# Altium footprint library RF_Connector.PcbLib: 5 footprints
Each footprint in its own frame and in the unit in brackets; x right, y up, seen from the top. Pads: shape width x height; smd on the part's side, far side on the other; paste and mask are expansions set on the pad; w line width, h text height; cw(c..) or ccw(c..) is an arc to the next point about the centre after c.
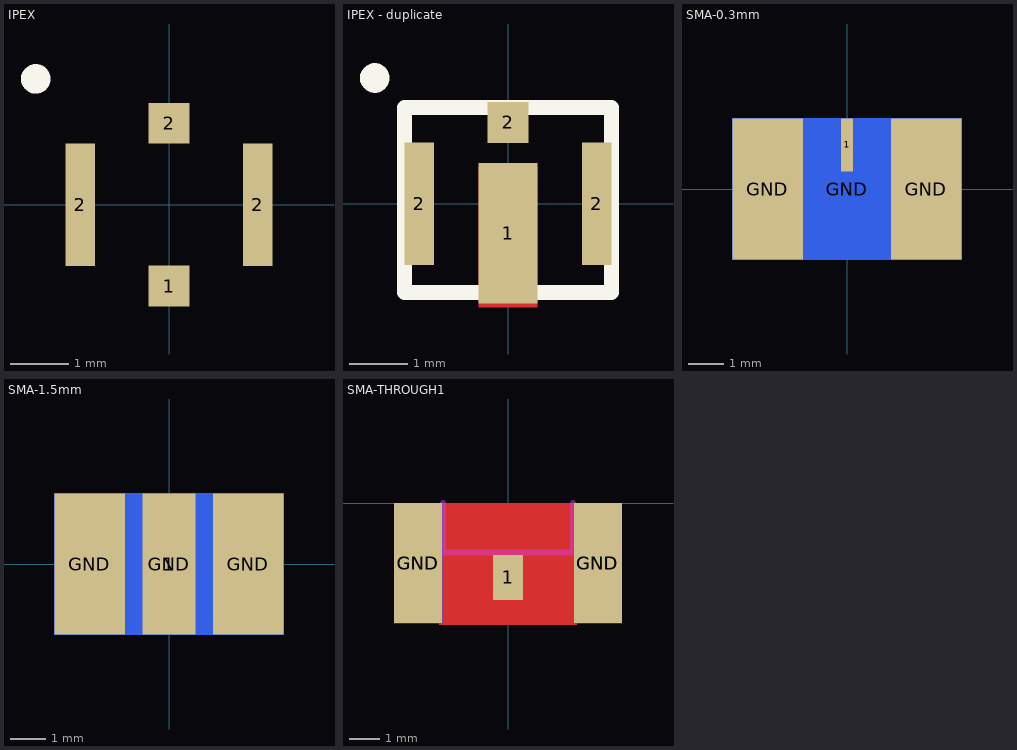
[diagram p0: the footprints below, top view; thin cyan lines are the x and y axes]

## IPEX [mm]
pads (4):
  rect 0.7x0.7 smd: 1(0,-1.397) 2(0,1.397)
  rect 0.5x2.1 smd: 2(-1.524,0) 2(1.524,0)
Top Overlay:
  circle w0.254: c-2.286,2.159 r0.127
Internal Plane 1:
  rectangle: -1.27,-1.651 1.27,1.143

## IPEX - duplicate [mm]
pads (4):
  rect 1.016x2.413 smd: 1(0,-0.508)
  rect 0.5x2.1 smd: 2(-1.524,0) 2(1.524,0)
  rect 0.7x0.7 smd: 2(0,1.397)
Top Layer:
  rectangle: -0.508,-1.778 0.508,0.635
Top Overlay:
  circle w0.254: c-2.286,2.159 r0.127
  lines w0.254: -1.778,-1.524 -1.778,1.651 1.778,1.651 1.778,-1.524 0.635,-1.524 -0.635,-1.524 -1.778,-1.524

## SMA-0.3mm [mm]
pads (4):
  rect 0.33x1.5 smd: 1(0,1.25)
  rect 2x4 smd: GND(-2.25,0) GND(2.25,0)
  rect 6.5x4 smd far side: GND(0,0)
Top Layer:
  pour cut-out: -1.25,2 1.25,2 1.25,-1.975 -1.25,-1.975

## SMA-1.5mm [mm]
pads (4):
  rect 1.5x4 smd: 1(0,0)
  rect 2x4 smd: GND(-2.25,0) GND(2.25,0)
  rect 6.5x4 smd far side: GND(0,0)
Top Layer:
  pour cut-out: -1.25,2 1.25,2 1.25,-1.975 -1.25,-1.975
Internal Plane 1:
  region: 1.42,-1.962 1.42,2 -1.425,2 -1.425,-1.962

## SMA-THROUGH1 [mm]
pads (5):
  rect 1x1.5 smd: 1(0,-2.475)
  rect 1.6x4 smd: GND(-3,-2) GND(3,-2)
  rect 1.6x4 smd far side: GND(-3,-2) GND(3,-2)
Top Layer:
  pour cut-out: 2.286,-4.064 -2.286,-4.064 -2.286,0 2.286,0
Internal Plane 1:
  region: 1.45,-3.225 1.45,-1.725 -1.395,-1.725 -1.395,-3.225
Keep-Out Layer:
  lines w0.2: -2.159,0 -2.159,-1.651 2.159,-1.651 2.159,0
3D body: height 0.8, standoff 0, extent -0.399,-3.225 0.399,-1.225
3D body: height 2.2, standoff -1.4, extent -1.8,-1.575 1.8,2.525
3D body: height 2.4, standoff -1.6, extent -2,-1.5 2,2.5